# Altium footprint library bmp280.PcbLib: 1 footprints
Each footprint in its own frame and in the unit in brackets; x right, y up, seen from the top. Pads: shape width x height; smd on the part's side, far side on the other; paste and mask are expansions set on the pad; w line width, h text height; cw(c..) or ccw(c..) is an arc to the next point about the centre after c.
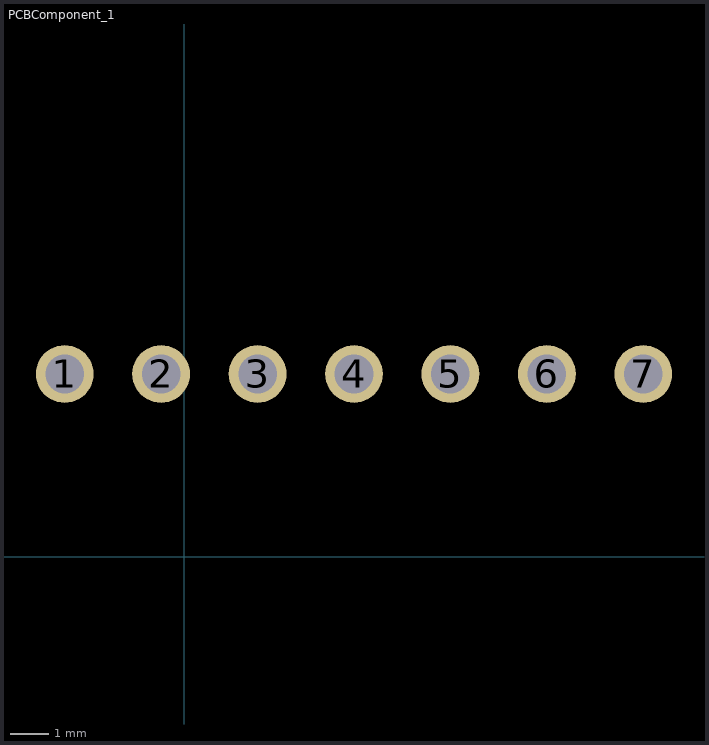
[diagram p0: the footprint, top view; thin cyan lines are the x and y axes]

## PCBComponent_1 [mil]
pads (7):
  round 60 hole 40: 1(-123.7,189.57) 2(-23.7,189.57) 3(76.3,189.57) 4(176.3,189.57) 5(276.3,189.57) 6(376.3,189.57) 7(476.3,189.57)